# Altium integrated library MCP2515-I_SO.IntLib: 2 symbols
Pins are listed as number, name and electrical type; pins without a type are passive.

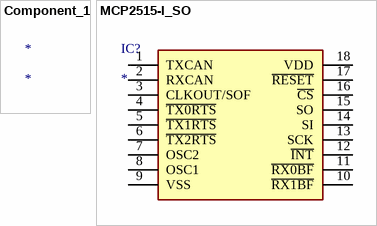
[diagram p0: symbols Component_1 to MCP2515-I_SO]

## Component_1
designator *

## MCP2515-I_SO
designator IC?
Integrated Circuit; Manufacturer_Name: Microchip; Manufacturer_Part_Number: MCP2515-I/SO; Description: CAN Controller SPI data filtering SO18; Datasheet Link: http://ww1.microchip.com/downloads/en/DeviceDoc/21801G.pdf; Height: 2.65mm; Arrow Part Number: MCP2515-I/SO; Arrow Price/Stock: https://www.arrow.com/en/products/mcp2515-iso/microchip-technology; Mouser Part Number: 579-MCP2515-I/SO; Mouser Price/Stock: https://www.mouser.co.uk/ProductDetail/Microchip-Technology/MCP2515-I-SO?qs=KwArPi4cUogGDbGnphOvtQ%3D%3D
footprint SOIC127P1030X265-18N
pins: 1 TXCAN, 2 RXCAN, 3 CLKOUT/SOF, 4 ~{TX0RTS}, 5 ~{TX1RTS}, 6 ~{TX2RTS}, 7 OSC2, 8 OSC1, 9 VSS, 10 ~{RX1BF}, 11 ~{RX0BF}, 12 ~{INT}, 13 SCK, 14 SI, 15 SO, 16 ~{CS}, 17 ~{RESET}, 18 VDD